# Altium footprint library USB_H2E.PcbLib: 17 footprints (part 1 of 2)
Each footprint in its own frame and in the unit in brackets; x right, y up, seen from the top. Pads: shape width x height; smd on the part's side, far side on the other; paste and mask are expansions set on the pad; w line width, h text height; cw(c..) or ccw(c..) is an arc to the next point about the centre after c.
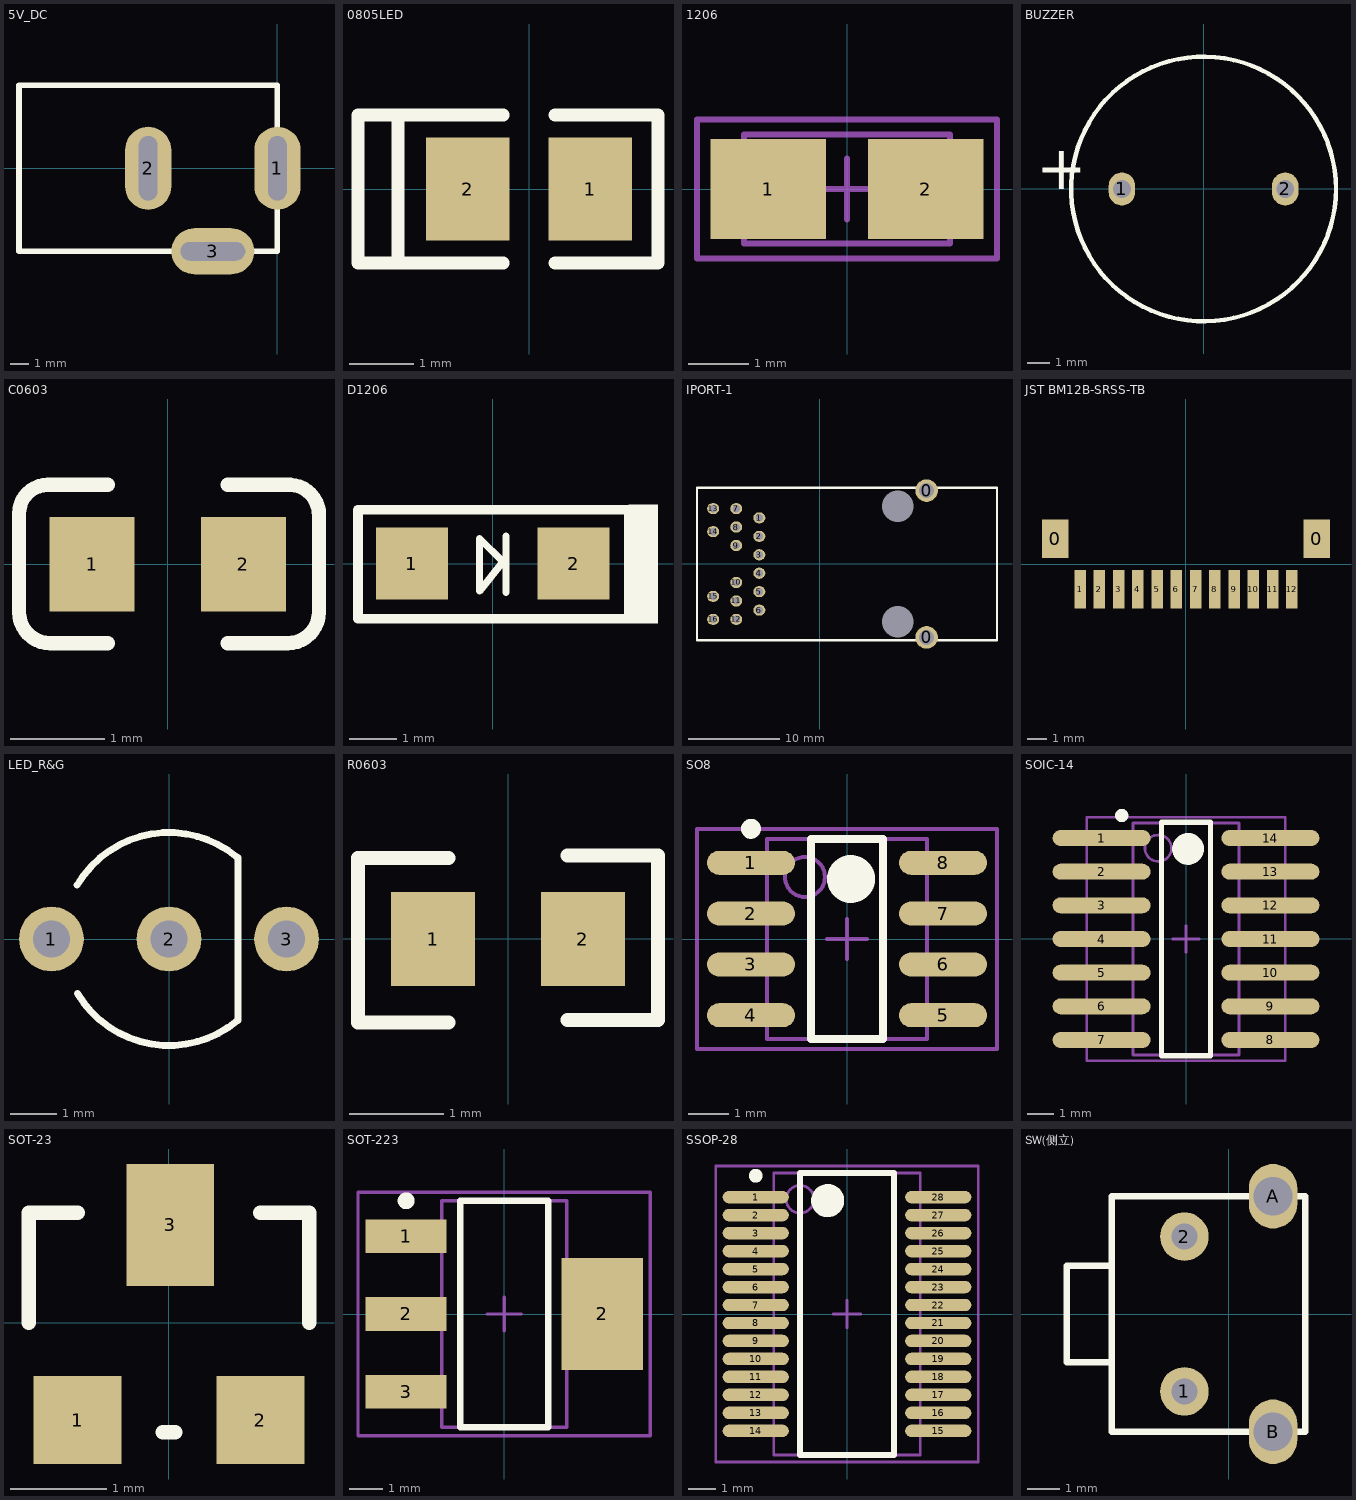
[diagram p0: the footprints below, top view; thin cyan lines are the x and y axes]

## 5V_DC [mm]
pads (3):
  oval 2.5x4.5 hole 1 slot 3.5 at 90 deg: 1(0,0) 2(-7,0)
  oval 4.5x2.5 hole 1 slot 3.5 at 0 deg: 3(-3.5,-4.5)
Top Overlay:
  lines w0.3: -14,-4.5 0,-4.5 0,0 0,4.5 -14,4.5 -14,-4.5
3D body: height 11, standoff -3.5, extent -14.204,-4.826 0.996,4.574

## 0805LED [mm] "SMT LED; 2 Leads"
height 2.8
pads (2):
  rect 1.3x1.6 smd: 1(0.95,0) 2(-0.95,0)
Top Overlay:
  lines w0.2: -2.034,-1.15 -2.034,1.15 ; -0.4,-1.15 -2.654,-1.15 -2.654,1.15 -0.4,1.15 ; 0.4,-1.15 2,-1.15 2,1.15 0.4,1.15
3D body: height 1.1, standoff 0, extent -1.01,-0.635 1.01,0.615

## 1206 [mm] "Molded Capacitor, 2-Leads, Body 3.3x1.7mm, IPC Medium Density"
height 1.1
pads (2):
  rect 1.9x1.65 smd: 1(-1.3,0) 2(1.3,0)
Mechanical 13:
  lines w0.1: -1.7,-0.9 1.7,-0.9 1.7,0.9 -1.7,0.9 -1.7,-0.9
Mechanical 15:
  lines w0.1: -0.5,0 0.5,0 ; 0,-0.5 0,0.5 ; -2.475,-1.15 2.475,-1.15 2.475,1.15 -2.475,1.15 -2.475,-1.15
3D body: height 0.95, standoff -0.01, extent -2.1,-0.889 2.1,0.911

## BUZZER [mm]
height 19.3
pads (2):
  oval 1.2x1.5 hole 0.8: 1(-3.7,0) 2(3.7,0)
Top Overlay:
  circle w0.2: c0,0 r6
  text "+" at -7.595,-0.013 h2
3D body: height 9.3, standoff -3.5, extent -6.031,-6 5.969,6

## C0603 [mm] "Chip Capacitor, 2-Leads, Body 1.6x0.8mm, IPC Medium Density"
height 0.5
pads (2):
  rect 0.9x1 smd: 1(-0.8,0) 2(0.8,0)
Top Overlay:
  lines w0.15: -0.635,-0.838 -1.245,-0.838 cw(c-1.245,-0.508) -1.575,-0.508 -1.575,0.533 cw(c-1.27,0.533) -1.27,0.838 -0.635,0.838 ; 0.635,-0.838 1.27,-0.838 ccw(c1.27,-0.508) 1.6,-0.508 1.6,0.508 ccw(c1.283,0.521) 1.295,0.838 ; 0.635,0.838 1.27,0.838
3D body: height 0.89, standoff -0.01, extent -1.3,-0.508 1.3,0.492

## D1206 [mil]
pads (2):
  rect 60x60 smd: 1(-67.5,0) 2(67.5,0)
Top Overlay:
  rectangle: 113.51,-49.88 138,49.12
  lines w6: 11,-24 11,23 ; -11,-23 -11,21.02 8.57,1.46 -11,-23
  lines w8: 57.02,45.03 113.52,45.03 113.52,-45.97 57,-45.97 -112.48,-45.97 -112.48,45.03 65,45.03
3D body: height 56.1, standoff -0.98, extent -68.8,-28.54 69,28.54

## IPORT-1 [mil]
pads (20):
  round 0 hole 135 unplated: 0(337.5,-250) 0(337.5,250)
  round 98 hole 65: 0(462.5,-318) 0(462.5,318)
  oval 52x48 hole 32: 1(-262.5,200) 2(-262.5,120) 3(-262.5,40) 4(-262.5,-40) 5(-262.5,-120) 6(-262.5,-200) 7(-362.5,240) 8(-362.5,160) 9(-362.5,80) 10(-362.5,-80) 11(-362.5,-160) 12(-362.5,-240) 13(-462.5,240) 14(-462.5,140) 15(-462.5,-140) 16(-462.5,-240)
Top Overlay:
  lines w10: -532.5,-330 -532.5,330 767.5,330 767.5,-330 -532.5,-330
Bottom Overlay:
  text "16" at -435,-330 h40
  text "13" at -435,290 h36
  text "7" at -345,285 h40
  text "15" at -435,-90 h40
  text "1" at -200,180 h40
  text "2" at -195,100 h40
  text "3" at -195,15 h40
  text "10" at -335,-35 h40
  text "NC" at -160,-55 h36
  text "NC" at -160,-140 h36
  text "NC" at -160,-220 h36
3D body: height 588.62, standoff -144.63, extent -522,-373.62 765,373.62

## JST BM12B-SRSS-TB [mm] "BM12B-SRSS-TB"
height 6.3
pads (14):
  rect 1.4x2 smd: 0(-6.8,1.308) 0(6.8,1.308)
  rect 0.6x2 smd: 1(-5.5,-1.308) 2(-4.5,-1.308) 3(-3.5,-1.308) 4(-2.5,-1.308) 5(-1.5,-1.308) 6(-0.5,-1.308) 7(0.5,-1.308) 8(1.5,-1.308) 9(2.5,-1.308) 10(3.5,-1.308) 11(4.5,-1.308) 12(5.5,-1.308)
3D body: height 4.25, standoff -0.07, extent -7,-1.568 7,2.032

## LED_R&G [mm]
pads (3):
  round 1.4 hole 0.8: 1(-2.54,0) 2(0,0) 3(2.54,0)
Top Overlay:
  lines w0.15: -1.982,1.166 cw(c0,0) 1.486,1.756 1.486,-1.756 cw(c0,0) -1.976,-1.176
3D body: height 12.43, standoff -1, extent -2.341,-2 2.159,2

## R0603 [mm]
pads (2):
  rect 0.9x1 smd: 1(-0.8,0) 2(0.8,0)
Top Overlay:
  lines w0.15: -1.6,-0.889 -0.635,-0.889 ; -1.6,0.864 -0.635,0.864 ; 0.635,-0.864 1.6,-0.864 ; 0.635,0.889 1.6,0.889
  lines w0.152: -1.6,-0.889 -1.6,0.864 ; 1.6,-0.864 1.6,0.889
3D body: height 0.45, standoff 0, extent -0.8,-0.381 0.8,0.419

## SO8 [mm] "SOIC, 8-Leads, Body 5.0x4.0mm (max), Pitch 1.27mm, IPC Medium Density"
height 1.75
pads (8):
  oval 2.2x0.6 smd: 1(-2.4,1.905) 2(-2.4,0.635) 3(-2.4,-0.635) 4(-2.4,-1.905) 5(2.4,-1.905) 6(2.4,-0.635) 7(2.4,0.635) 8(2.4,1.905)
Top Overlay:
  circle w0.6: c0.1,1.5 r0.3
  circle w0.25: c-2.4,2.755 r0.125
  lines w0.2: -0.9,-2.5 0.9,-2.5 0.9,2.5 -0.9,2.5 -0.9,-2.5
Mechanical 13:
  circle w0.1: c-1.05,1.55 r0.5
  lines w0.1: -2,-2.5 2,-2.5 2,2.5 -2,2.5 -2,-2.5
Mechanical 15:
  lines w0.1: -0.5,0 0.5,0 ; 0,-0.5 0,0.5 ; -3.75,-2.75 3.75,-2.75 3.75,2.75 -3.75,2.75 -3.75,-2.75
3D body: height 1.75, standoff 0.19, extent -2,-2.5 2,2.5

## SOIC-14 [mm] "SOIC, 14-Leads, Body 8.8x4.0mm (max), Pitch 1.27mm, IPC Medium Density"
height 1.75
pads (14):
  oval 3.7x0.6 smd: 1(-3.187,3.81) 2(-3.187,2.54) 3(-3.187,1.27) 4(-3.187,0) 5(-3.187,-1.27) 6(-3.187,-2.54) 7(-3.187,-3.81) 8(3.187,-3.81) 9(3.187,-2.54) 10(3.187,-1.27) 11(3.187,0) 12(3.187,1.27) 13(3.187,2.54) 14(3.187,3.81)
Top Overlay:
  circle w0.6: c0.075,3.4 r0.3
  circle w0.25: c-2.425,4.66 r0.125
  lines w0.2: -0.925,-4.4 0.925,-4.4 0.925,4.4 -0.925,4.4 -0.925,-4.4
Mechanical 13:
  circle w0.1: c-1.05,3.425 r0.5
  lines w0.1: -2,-4.375 2,-4.375 2,4.375 -2,4.375 -2,-4.375
Mechanical 15:
  lines w0.1: -0.5,0 0.5,0 ; 0,-0.5 0,0.5 ; -3.75,-4.6 3.75,-4.6 3.75,4.6 -3.75,4.6 -3.75,-4.6
3D body: height 1.75, standoff 0, extent -3,-4.369 3,4.381

## SOT-23 [mil]
pads (3):
  rect 36x36 smd: 1(-37.5,-40) 2(37.5,-40)
  rect 36x50 smd: 3(0.5,40)
Top Overlay:
  lines w6: -57.5,0 -57.5,45 -37.5,45 ; -2.5,-45 2.5,-45 ; 37.5,45 57.5,45 57.5,0
3D body: height 47.24, standoff 0, extent -57.09,-55 57.09,55.24

## SOT-223 [mm] "SOT223, 4-Leads, Body 6.7x7.3mm (max), Pitch 2.30mm, IPC Medium Density"
height 1.8
pads (4):
  rect 2.4x1 smd: 1(-2.9,2.3) 2(-2.9,0) 3(-2.9,-2.3)
  rect 2.4x3.3 smd: 2(2.9,0)
Top Overlay:
  circle w0.25: c-2.9,3.35 r0.125
  lines w0.2: -1.3,-3.35 1.3,-3.35 1.3,3.35 -1.3,3.35 -1.3,-3.35
Mechanical 13:
  lines w0.1: -1.85,-3.35 1.85,-3.35 1.85,3.35 -1.85,3.35 -1.85,-3.35
Mechanical 15:
  lines w0.1: -0.5,0 0.5,0 ; 0,-0.5 0,0.5 ; -4.325,-3.6 4.325,-3.6 4.325,3.6 -4.325,3.6 -4.325,-3.6
3D body: height 1.65, standoff -0.03, extent -3.531,-3.25 3.429,3.25

## SSOP-28 [mm] "SOP, 28-Leads, Body 10.2x5.3mm (max), Pitch 0.65mm, IPC Medium Density"
height 2
pads (28):
  oval 2.4x0.45 smd: 1(-3.3,4.225) 2(-3.3,3.575) 3(-3.3,2.925) 4(-3.3,2.275) 5(-3.3,1.625) 6(-3.3,0.975) 7(-3.3,0.325) 8(-3.3,-0.325) 9(-3.3,-0.975) 10(-3.3,-1.625) 11(-3.3,-2.275) 12(-3.3,-2.925) 13(-3.3,-3.575) 14(-3.3,-4.225) 15(3.3,-4.225) 16(3.3,-3.575) 17(3.3,-2.925) 18(3.3,-2.275) 19(3.3,-1.625) 20(3.3,-0.975) 21(3.3,-0.325) 22(3.3,0.325) 23(3.3,0.975) 24(3.3,1.625) 25(3.3,2.275) 26(3.3,2.925) 27(3.3,3.575) 28(3.3,4.225)
Top Overlay:
  circle w0.25: c-3.3,5 r0.125
  circle w0.6: c-0.7,4.1 r0.3
  lines w0.2: -1.7,-5.1 -1.7,5.1 1.7,5.1 1.7,-5.1 -1.7,-5.1
Mechanical 13:
  circle w0.1: c-1.7,4.15 r0.5
  lines w0.1: -2.65,-5.1 -2.65,5.1 2.65,5.1 2.65,-5.1 -2.65,-5.1
Mechanical 15:
  lines w0.1: -0.5,0 0.5,0 ; 0,-0.5 0,0.5 ; -4.75,-5.35 -4.75,5.35 4.75,5.35 4.75,-5.35 -4.75,-5.35
3D body: height 2, standoff 0.05, extent -2.65,-5.1 2.65,5.1

## SW(侧立) [mm]
height 19.3
pads (4):
  round 1.5 hole 0.8: 1(-1.375,-2.4) 2(-1.375,2.4)
  oval 1.5x2 hole 1.2: A(1.375,3.65) B(1.375,-3.65)
Top Overlay:
  lines w0.2: -3.625,-1.5 -5.025,-1.5 -5.025,1.5 -3.625,1.5 ; -3.625,-3.65 -3.625,3.65 2.375,3.65 2.375,-3.65 -3.625,-3.65
3D body: height 7.1, standoff -3.5, extent -5.08,-4.086 2.715,4.086